# Altium footprint library TE_4-644456-0.PcbLib: 1 footprints
Each footprint in its own frame and in the unit in brackets; x right, y up, seen from the top. Pads: shape width x height; smd on the part's side, far side on the other; paste and mask are expansions set on the pad; w line width, h text height; cw(c..) or ccw(c..) is an arc to the next point about the centre after c.
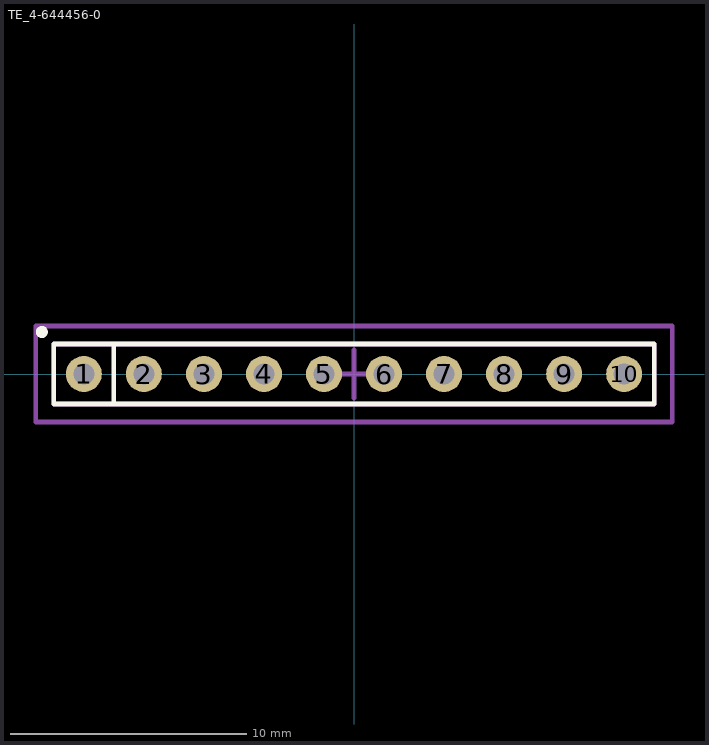
[diagram p0: the footprint, top view; thin cyan lines are the x and y axes]

## TE_4-644456-0 [mil]
pads (10):
  round 60 hole 35: 1(-450,0) 2(-350,0) 3(-250,0) 4(-150,0) 5(-50,0) 6(50,0) 7(150,0) 8(250,0) 9(350,0) 10(450,0)
Top Overlay:
  circle w10: c-520,70 r5
  lines w7.87: -400,-50 -400,50 ; -500,-50 -500,50 500,50 500,-50 -500,-50
Mechanical 15:
  lines w7.87: -40,0 40,0 ; 0,-40 0,40 ; -530,-80 -530,80 530,80 530,-80 -530,-80
Mechanical 17:
  lines w7.87: -500,-50 500,-50 500,50 -500,50 -500,-50
  text ".Designator" at -490,-40 h30
Mechanical 19:
  lines w7.87: -500,-50 -500,50 500,50 500,-50 -500,-50
  text ".Comment" at -485,-35 h30
3D body: height 395, standoff -110, extent -494.09,-45.99 494.1,46.01